# Altium schematic symbol library jlcpcb_resistors_basic.schlib: 256 symbols (part 4 of 5)
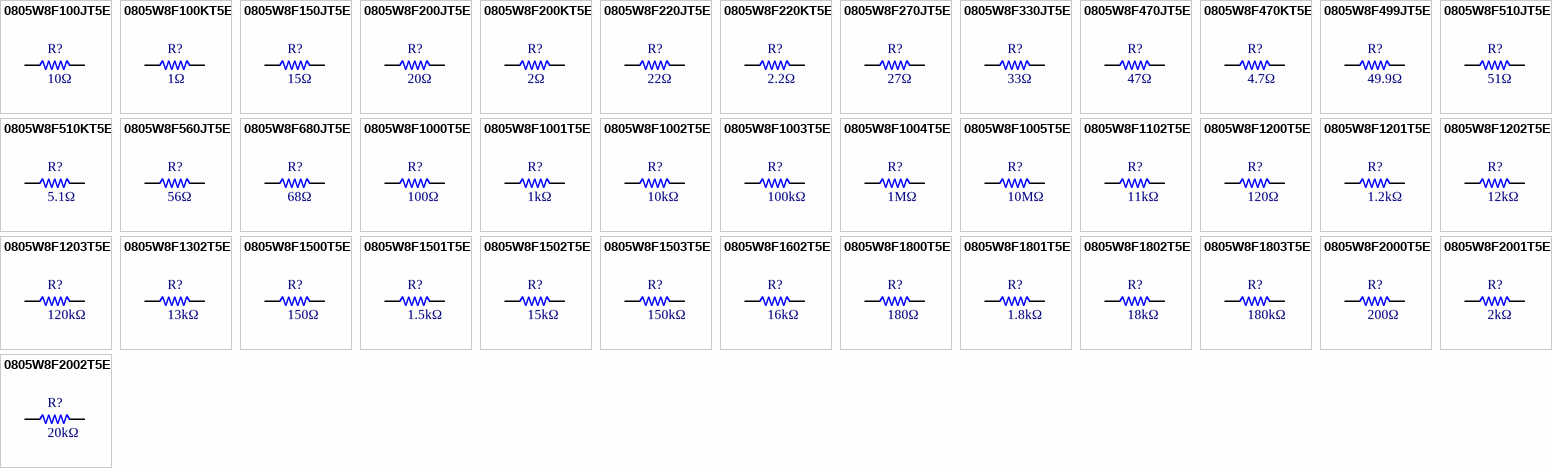
[diagram p9: symbols 0805W8F100JT5E to 0805W8F2002T5E]

## 0805W8F1200T5E
designator R?  Resistance: 120Ω  (hidden comment: *)
Resistor, 120Ω, ±1%, 125mW, 150V, ±100ppm/°C, -55°C to +155°C, SMD 0805; Manufacturer: Uniroyal; Manufacturer Part Number: 0805W8F1200T5E; Supplier 1: LCSC; Supplier Part Number 1: C17437; JLCPCB Part Number: C17437; Power Rating: 125mW; Category: Resistors; Package Size: 0805; JLCPCB Basic Part: Yes; Tolerance: ±1%; Voltage Rating: 150V; Temperature Coefficient: ±100ppm/°C; Temperature Rating: -55°C to +155°C; ComponentLink1Description: Datasheet; ComponentLink1URL: https://datasheet.lcsc.com/lcsc/2206010216_UNI-ROYAL-Uniroyal-Elec-0805W8F1200T5E_C17437.pdf; ComponentLink2Description: JLCPCB Part URL; ComponentLink2URL: https://jlcpcb.com/partdetail/18125-0805W8F1200T5E/C17437
footprint RES-0805 (0805 (2012M) Resistor)
pins: 1, 2

## 0805W8F1201T5E
designator R?  Resistance: 1.2kΩ  (hidden comment: *)
Resistor, 1.2kΩ, ±1%, 125mW, 150V, ±100ppm/°C, -55°C to +155°C, SMD 0805; Manufacturer: Uniroyal; Manufacturer Part Number: 0805W8F1201T5E; Supplier 1: LCSC; Supplier Part Number 1: C17379; JLCPCB Part Number: C17379; Power Rating: 125mW; Category: Resistors; Package Size: 0805; JLCPCB Basic Part: Yes; Tolerance: ±1%; Voltage Rating: 150V; Temperature Coefficient: ±100ppm/°C; Temperature Rating: -55°C to +155°C; ComponentLink1Description: Datasheet; ComponentLink1URL: https://datasheet.lcsc.com/lcsc/2206010216_UNI-ROYAL-Uniroyal-Elec-0805W8F1201T5E_C17379.pdf; ComponentLink2Description: JLCPCB Part URL; ComponentLink2URL: https://jlcpcb.com/partdetail/18067-0805W8F1201T5E/C17379
footprint RES-0805 (0805 (2012M) Resistor)
pins: 1, 2

## 0805W8F1202T5E
designator R?  Resistance: 12kΩ  (hidden comment: *)
Resistor, 12kΩ, ±1%, 125mW, 150V, ±100ppm/°C, -55°C to +155°C, SMD 0805; Manufacturer: Uniroyal; Manufacturer Part Number: 0805W8F1202T5E; Supplier 1: LCSC; Supplier Part Number 1: C17444; JLCPCB Part Number: C17444; Power Rating: 125mW; Category: Resistors; Package Size: 0805; JLCPCB Basic Part: Yes; Tolerance: ±1%; Voltage Rating: 150V; Temperature Coefficient: ±100ppm/°C; Temperature Rating: -55°C to +155°C; ComponentLink1Description: Datasheet; ComponentLink1URL: https://datasheet.lcsc.com/lcsc/2206010216_UNI-ROYAL-Uniroyal-Elec-0805W8F1202T5E_C17444.pdf; ComponentLink2Description: JLCPCB Part URL; ComponentLink2URL: https://jlcpcb.com/partdetail/18132-0805W8F1202T5E/C17444
footprint RES-0805 (0805 (2012M) Resistor)
pins: 1, 2

## 0805W8F1203T5E
designator R?  Resistance: 120kΩ  (hidden comment: *)
Resistor, 120kΩ, ±1%, 125mW, 150V, ±100ppm/°C, -55°C to +155°C, SMD 0805; Manufacturer: Uniroyal; Manufacturer Part Number: 0805W8F1203T5E; Supplier 1: LCSC; Supplier Part Number 1: C17436; JLCPCB Part Number: C17436; Power Rating: 125mW; Category: Resistors; Package Size: 0805; JLCPCB Basic Part: Yes; Tolerance: ±1%; Voltage Rating: 150V; Temperature Coefficient: ±100ppm/°C; Temperature Rating: -55°C to +155°C; ComponentLink1Description: Datasheet; ComponentLink1URL: https://datasheet.lcsc.com/lcsc/2206010216_UNI-ROYAL-Uniroyal-Elec-0805W8F1203T5E_C17436.pdf; ComponentLink2Description: JLCPCB Part URL; ComponentLink2URL: https://jlcpcb.com/partdetail/18124-0805W8F1203T5E/C17436
footprint RES-0805 (0805 (2012M) Resistor)
pins: 1, 2

## 0805W8F1302T5E
designator R?  Resistance: 13kΩ  (hidden comment: *)
Resistor, 13kΩ, ±1%, 125mW, 150V, ±100ppm/°C, -55°C to +155°C, SMD 0805; Manufacturer: Uniroyal; Manufacturer Part Number: 0805W8F1302T5E; Supplier 1: LCSC; Supplier Part Number 1: C17455; JLCPCB Part Number: C17455; Power Rating: 125mW; Category: Resistors; Package Size: 0805; JLCPCB Basic Part: Yes; Tolerance: ±1%; Voltage Rating: 150V; Temperature Coefficient: ±100ppm/°C; Temperature Rating: -55°C to +155°C; ComponentLink1Description: Datasheet; ComponentLink1URL: https://datasheet.lcsc.com/lcsc/2206010216_UNI-ROYAL-Uniroyal-Elec-0805W8F1302T5E_C17455.pdf; ComponentLink2Description: JLCPCB Part URL; ComponentLink2URL: https://jlcpcb.com/partdetail/18143-0805W8F1302T5E/C17455
footprint RES-0805 (0805 (2012M) Resistor)
pins: 1, 2

## 0805W8F1500T5E
designator R?  Resistance: 150Ω  (hidden comment: *)
Resistor, 150Ω, ±1%, 125mW, 150V, ±100ppm/°C, -55°C to +155°C, SMD 0805; Manufacturer: Uniroyal; Manufacturer Part Number: 0805W8F1500T5E; Supplier 1: LCSC; Supplier Part Number 1: C17471; JLCPCB Part Number: C17471; Power Rating: 125mW; Category: Resistors; Package Size: 0805; JLCPCB Basic Part: Yes; Tolerance: ±1%; Voltage Rating: 150V; Temperature Coefficient: ±100ppm/°C; Temperature Rating: -55°C to +155°C; ComponentLink1Description: Datasheet; ComponentLink1URL: https://datasheet.lcsc.com/lcsc/2206010216_UNI-ROYAL-Uniroyal-Elec-0805W8F1500T5E_C17471.pdf; ComponentLink2Description: JLCPCB Part URL; ComponentLink2URL: https://jlcpcb.com/partdetail/18159-0805W8F1500T5E/C17471
footprint RES-0805 (0805 (2012M) Resistor)
pins: 1, 2

## 0805W8F1501T5E
designator R?  Resistance: 1.5kΩ  (hidden comment: *)
Resistor, 1.5kΩ, ±1%, 125mW, 150V, ±100ppm/°C, -55°C to +155°C, SMD 0805; Manufacturer: Uniroyal; Manufacturer Part Number: 0805W8F1501T5E; Supplier 1: LCSC; Supplier Part Number 1: C4310; JLCPCB Part Number: C4310; Power Rating: 125mW; Category: Resistors; Package Size: 0805; JLCPCB Basic Part: Yes; Tolerance: ±1%; Voltage Rating: 150V; Temperature Coefficient: ±100ppm/°C; Temperature Rating: -55°C to +155°C; ComponentLink1Description: Datasheet; ComponentLink1URL: https://datasheet.lcsc.com/lcsc/2206010216_UNI-ROYAL-Uniroyal-Elec-0805W8F1501T5E_C4310.pdf; ComponentLink2Description: JLCPCB Part URL; ComponentLink2URL: https://jlcpcb.com/partdetail/4717-0805W8F1501T5E/C4310
footprint RES-0805 (0805 (2012M) Resistor)
pins: 1, 2

## 0805W8F1502T5E
designator R?  Resistance: 15kΩ  (hidden comment: *)
Resistor, 15kΩ, ±1%, 125mW, 150V, ±100ppm/°C, -55°C to +155°C, SMD 0805; Manufacturer: Uniroyal; Manufacturer Part Number: 0805W8F1502T5E; Supplier 1: LCSC; Supplier Part Number 1: C17475; JLCPCB Part Number: C17475; Power Rating: 125mW; Category: Resistors; Package Size: 0805; JLCPCB Basic Part: Yes; Tolerance: ±1%; Voltage Rating: 150V; Temperature Coefficient: ±100ppm/°C; Temperature Rating: -55°C to +155°C; ComponentLink1Description: Datasheet; ComponentLink1URL: https://datasheet.lcsc.com/lcsc/2206010216_UNI-ROYAL-Uniroyal-Elec-0805W8F1502T5E_C17475.pdf; ComponentLink2Description: JLCPCB Part URL; ComponentLink2URL: https://jlcpcb.com/partdetail/18163-0805W8F1502T5E/C17475
footprint RES-0805 (0805 (2012M) Resistor)
pins: 1, 2

## 0805W8F1503T5E
designator R?  Resistance: 150kΩ  (hidden comment: *)
Resistor, 150kΩ, ±1%, 125mW, 150V, ±100ppm/°C, -55°C to +155°C, SMD 0805; Manufacturer: Uniroyal; Manufacturer Part Number: 0805W8F1503T5E; Supplier 1: LCSC; Supplier Part Number 1: C17470; JLCPCB Part Number: C17470; Power Rating: 125mW; Category: Resistors; Package Size: 0805; JLCPCB Basic Part: Yes; Tolerance: ±1%; Voltage Rating: 150V; Temperature Coefficient: ±100ppm/°C; Temperature Rating: -55°C to +155°C; ComponentLink1Description: Datasheet; ComponentLink1URL: https://datasheet.lcsc.com/lcsc/2206010216_UNI-ROYAL-Uniroyal-Elec-0805W8F1503T5E_C17470.pdf; ComponentLink2Description: JLCPCB Part URL; ComponentLink2URL: https://jlcpcb.com/partdetail/18158-0805W8F1503T5E/C17470
footprint RES-0805 (0805 (2012M) Resistor)
pins: 1, 2

## 0805W8F1602T5E
designator R?  Resistance: 16kΩ  (hidden comment: *)
Resistor, 16kΩ, ±1%, 125mW, 150V, ±100ppm/°C, -55°C to +155°C, SMD 0805; Manufacturer: Uniroyal; Manufacturer Part Number: 0805W8F1602T5E; Supplier 1: LCSC; Supplier Part Number 1: C17490; JLCPCB Part Number: C17490; Power Rating: 125mW; Category: Resistors; Package Size: 0805; JLCPCB Basic Part: Yes; Tolerance: ±1%; Voltage Rating: 150V; Temperature Coefficient: ±100ppm/°C; Temperature Rating: -55°C to +155°C; ComponentLink1Description: Datasheet; ComponentLink1URL: https://datasheet.lcsc.com/lcsc/2206010216_UNI-ROYAL-Uniroyal-Elec-0805W8F1602T5E_C17490.pdf; ComponentLink2Description: JLCPCB Part URL; ComponentLink2URL: https://jlcpcb.com/partdetail/18178-0805W8F1602T5E/C17490
footprint RES-0805 (0805 (2012M) Resistor)
pins: 1, 2

## 0805W8F1800T5E
designator R?  Resistance: 180Ω  (hidden comment: *)
Resistor, 180Ω, ±1%, 125mW, 150V, ±100ppm/°C, -55°C to +155°C, SMD 0805; Manufacturer: Uniroyal; Manufacturer Part Number: 0805W8F1800T5E; Supplier 1: LCSC; Supplier Part Number 1: C25270; JLCPCB Part Number: C25270; Power Rating: 125mW; Category: Resistors; Package Size: 0805; JLCPCB Basic Part: Yes; Tolerance: ±1%; Voltage Rating: 150V; Temperature Coefficient: ±100ppm/°C; Temperature Rating: -55°C to +155°C; ComponentLink1Description: Datasheet; ComponentLink1URL: https://datasheet.lcsc.com/lcsc/2205311845_UNI-ROYAL-Uniroyal-Elec-0805W8F1800T5E_C25270.pdf; ComponentLink2Description: JLCPCB Part URL; ComponentLink2URL: https://jlcpcb.com/partdetail/26013-0805W8F1800T5E/C25270
footprint RES-0805 (0805 (2012M) Resistor)
pins: 1, 2

## 0805W8F1801T5E
designator R?  Resistance: 1.8kΩ  (hidden comment: *)
Resistor, 1.8kΩ, ±1%, 125mW, 150V, ±100ppm/°C, -55°C to +155°C, SMD 0805; Manufacturer: Uniroyal; Manufacturer Part Number: 0805W8F1801T5E; Supplier 1: LCSC; Supplier Part Number 1: C17398; JLCPCB Part Number: C17398; Power Rating: 125mW; Category: Resistors; Package Size: 0805; JLCPCB Basic Part: Yes; Tolerance: ±1%; Voltage Rating: 150V; Temperature Coefficient: ±100ppm/°C; Temperature Rating: -55°C to +155°C; ComponentLink1Description: Datasheet; ComponentLink1URL: https://datasheet.lcsc.com/lcsc/2206010216_UNI-ROYAL-Uniroyal-Elec-0805W8F1801T5E_C17398.pdf; ComponentLink2Description: JLCPCB Part URL; ComponentLink2URL: https://jlcpcb.com/partdetail/18086-0805W8F1801T5E/C17398
footprint RES-0805 (0805 (2012M) Resistor)
pins: 1, 2

## 0805W8F1802T5E
designator R?  Resistance: 18kΩ  (hidden comment: *)
Resistor, 18kΩ, ±1%, 125mW, 150V, ±100ppm/°C, -55°C to +155°C, SMD 0805; Manufacturer: Uniroyal; Manufacturer Part Number: 0805W8F1802T5E; Supplier 1: LCSC; Supplier Part Number 1: C17506; JLCPCB Part Number: C17506; Power Rating: 125mW; Category: Resistors; Package Size: 0805; JLCPCB Basic Part: Yes; Tolerance: ±1%; Voltage Rating: 150V; Temperature Coefficient: ±100ppm/°C; Temperature Rating: -55°C to +155°C; ComponentLink1Description: Datasheet; ComponentLink1URL: https://datasheet.lcsc.com/lcsc/2206010216_UNI-ROYAL-Uniroyal-Elec-0805W8F1802T5E_C17506.pdf; ComponentLink2Description: JLCPCB Part URL; ComponentLink2URL: https://jlcpcb.com/partdetail/18194-0805W8F1802T5E/C17506
footprint RES-0805 (0805 (2012M) Resistor)
pins: 1, 2

## 0805W8F1803T5E
designator R?  Resistance: 180kΩ  (hidden comment: *)
Resistor, 180kΩ, ±1%, 125mW, 150V, ±100ppm/°C, -55°C to +155°C, SMD 0805; Manufacturer: Uniroyal; Manufacturer Part Number: 0805W8F1803T5E; Supplier 1: LCSC; Supplier Part Number 1: C17501; JLCPCB Part Number: C17501; Power Rating: 125mW; Category: Resistors; Package Size: 0805; JLCPCB Basic Part: Yes; Tolerance: ±1%; Voltage Rating: 150V; Temperature Coefficient: ±100ppm/°C; Temperature Rating: -55°C to +155°C; ComponentLink1Description: Datasheet; ComponentLink1URL: https://datasheet.lcsc.com/lcsc/2206010216_UNI-ROYAL-Uniroyal-Elec-0805W8F1803T5E_C17501.pdf; ComponentLink2Description: JLCPCB Part URL; ComponentLink2URL: https://jlcpcb.com/partdetail/18189-0805W8F1803T5E/C17501
footprint RES-0805 (0805 (2012M) Resistor)
pins: 1, 2

## 0805W8F2000T5E
designator R?  Resistance: 200Ω  (hidden comment: *)
Resistor, 200Ω, ±1%, 125mW, 150V, ±100ppm/°C, -55°C to +155°C, SMD 0805; Manufacturer: Uniroyal; Manufacturer Part Number: 0805W8F2000T5E; Supplier 1: LCSC; Supplier Part Number 1: C17540; JLCPCB Part Number: C17540; Power Rating: 125mW; Category: Resistors; Package Size: 0805; JLCPCB Basic Part: Yes; Tolerance: ±1%; Voltage Rating: 150V; Temperature Coefficient: ±100ppm/°C; Temperature Rating: -55°C to +155°C; ComponentLink1Description: Datasheet; ComponentLink1URL: https://datasheet.lcsc.com/lcsc/2206010200_UNI-ROYAL-Uniroyal-Elec-0805W8F2000T5E_C17540.pdf; ComponentLink2Description: JLCPCB Part URL; ComponentLink2URL: https://jlcpcb.com/partdetail/18228-0805W8F2000T5E/C17540
footprint RES-0805 (0805 (2012M) Resistor)
pins: 1, 2

## 0805W8F2001T5E
designator R?  Resistance: 2kΩ  (hidden comment: *)
Resistor, 2kΩ, ±1%, 125mW, 150V, ±100ppm/°C, -55°C to +155°C, SMD 0805; Manufacturer: Uniroyal; Manufacturer Part Number: 0805W8F2001T5E; Supplier 1: LCSC; Supplier Part Number 1: C17604; JLCPCB Part Number: C17604; Power Rating: 125mW; Category: Resistors; Package Size: 0805; JLCPCB Basic Part: Yes; Tolerance: ±1%; Voltage Rating: 150V; Temperature Coefficient: ±100ppm/°C; Temperature Rating: -55°C to +155°C; ComponentLink1Description: Datasheet; ComponentLink1URL: https://datasheet.lcsc.com/lcsc/2206010200_UNI-ROYAL-Uniroyal-Elec-0805W8F2001T5E_C17604.pdf; ComponentLink2Description: JLCPCB Part URL; ComponentLink2URL: https://jlcpcb.com/partdetail/18292-0805W8F2001T5E/C17604
footprint RES-0805 (0805 (2012M) Resistor)
pins: 1, 2

## 0805W8F2002T5E
designator R?  Resistance: 20kΩ  (hidden comment: *)
Resistor, 20kΩ, ±1%, 125mW, 150V, ±100ppm/°C, -55°C to +155°C, SMD 0805; Manufacturer: Uniroyal; Manufacturer Part Number: 0805W8F2002T5E; Supplier 1: LCSC; Supplier Part Number 1: C4328; JLCPCB Part Number: C4328; Power Rating: 125mW; Category: Resistors; Package Size: 0805; JLCPCB Basic Part: Yes; Tolerance: ±1%; Voltage Rating: 150V; Temperature Coefficient: ±100ppm/°C; Temperature Rating: -55°C to +155°C; ComponentLink1Description: Datasheet; ComponentLink1URL: https://datasheet.lcsc.com/lcsc/2206010216_UNI-ROYAL-Uniroyal-Elec-0805W8F2002T5E_C4328.pdf; ComponentLink2Description: JLCPCB Part URL; ComponentLink2URL: https://jlcpcb.com/partdetail/4735-0805W8F2002T5E/C4328
footprint RES-0805 (0805 (2012M) Resistor)
pins: 1, 2

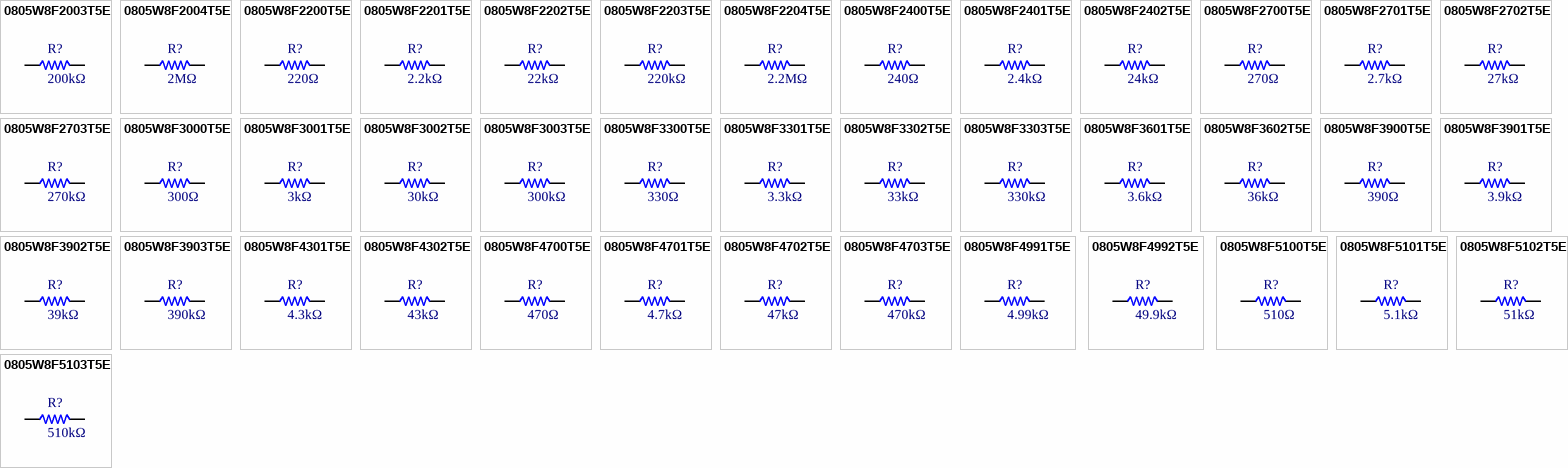
[diagram p5: symbols 0805W8F2003T5E to 0805W8F5103T5E]

## 0805W8F2003T5E
designator R?  Resistance: 200kΩ  (hidden comment: *)
Resistor, 200kΩ, ±1%, 125mW, 150V, ±100ppm/°C, -55°C to +155°C, SMD 0805; Manufacturer: Uniroyal; Manufacturer Part Number: 0805W8F2003T5E; Supplier 1: LCSC; Supplier Part Number 1: C17539; JLCPCB Part Number: C17539; Power Rating: 125mW; Category: Resistors; Package Size: 0805; JLCPCB Basic Part: Yes; Tolerance: ±1%; Voltage Rating: 150V; Temperature Coefficient: ±100ppm/°C; Temperature Rating: -55°C to +155°C; ComponentLink1Description: Datasheet; ComponentLink1URL: https://datasheet.lcsc.com/lcsc/2206010200_UNI-ROYAL-Uniroyal-Elec-0805W8F2003T5E_C17539.pdf; ComponentLink2Description: JLCPCB Part URL; ComponentLink2URL: https://jlcpcb.com/partdetail/18227-0805W8F2003T5E/C17539
footprint RES-0805 (0805 (2012M) Resistor)
pins: 1, 2

## 0805W8F2004T5E
designator R?  Resistance: 2MΩ  (hidden comment: *)
Resistor, 2MΩ, ±1%, 125mW, 150V, ±100ppm/°C, -55°C to +155°C, SMD 0805; Manufacturer: Uniroyal; Manufacturer Part Number: 0805W8F2004T5E; Supplier 1: LCSC; Supplier Part Number 1: C26112; JLCPCB Part Number: C26112; Power Rating: 125mW; Category: Resistors; Package Size: 0805; JLCPCB Basic Part: Yes; Tolerance: ±1%; Voltage Rating: 150V; Temperature Coefficient: ±100ppm/°C; Temperature Rating: -55°C to +155°C; ComponentLink1Description: Datasheet; ComponentLink1URL: https://datasheet.lcsc.com/lcsc/2206010030_UNI-ROYAL-Uniroyal-Elec-0805W8F2004T5E_C26112.pdf; ComponentLink2Description: JLCPCB Part URL; ComponentLink2URL: https://jlcpcb.com/partdetail/26855-0805W8F2004T5E/C26112
footprint RES-0805 (0805 (2012M) Resistor)
pins: 1, 2

## 0805W8F2200T5E
designator R?  Resistance: 220Ω  (hidden comment: *)
Resistor, 220Ω, ±1%, 125mW, 150V, ±100ppm/°C, -55°C to +155°C, SMD 0805; Manufacturer: Uniroyal; Manufacturer Part Number: 0805W8F2200T5E; Supplier 1: LCSC; Supplier Part Number 1: C17557; JLCPCB Part Number: C17557; Power Rating: 125mW; Category: Resistors; Package Size: 0805; JLCPCB Basic Part: Yes; Tolerance: ±1%; Voltage Rating: 150V; Temperature Coefficient: ±100ppm/°C; Temperature Rating: -55°C to +155°C; ComponentLink1Description: Datasheet; ComponentLink1URL: https://datasheet.lcsc.com/lcsc/2206010200_UNI-ROYAL-Uniroyal-Elec-0805W8F2200T5E_C17557.pdf; ComponentLink2Description: JLCPCB Part URL; ComponentLink2URL: https://jlcpcb.com/partdetail/18245-0805W8F2200T5E/C17557
footprint RES-0805 (0805 (2012M) Resistor)
pins: 1, 2

## 0805W8F2201T5E
designator R?  Resistance: 2.2kΩ  (hidden comment: *)
Resistor, 2.2kΩ, ±1%, 125mW, 150V, ±100ppm/°C, -55°C to +155°C, SMD 0805; Manufacturer: Uniroyal; Manufacturer Part Number: 0805W8F2201T5E; Supplier 1: LCSC; Supplier Part Number 1: C17520; JLCPCB Part Number: C17520; Power Rating: 125mW; Category: Resistors; Package Size: 0805; JLCPCB Basic Part: Yes; Tolerance: ±1%; Voltage Rating: 150V; Temperature Coefficient: ±100ppm/°C; Temperature Rating: -55°C to +155°C; ComponentLink1Description: Datasheet; ComponentLink1URL: https://datasheet.lcsc.com/lcsc/2206010200_UNI-ROYAL-Uniroyal-Elec-0805W8F2201T5E_C17520.pdf; ComponentLink2Description: JLCPCB Part URL; ComponentLink2URL: https://jlcpcb.com/partdetail/18208-0805W8F2201T5E/C17520
footprint RES-0805 (0805 (2012M) Resistor)
pins: 1, 2

## 0805W8F2202T5E
designator R?  Resistance: 22kΩ  (hidden comment: *)
Resistor, 22kΩ, ±1%, 125mW, 150V, ±100ppm/°C, -55°C to +155°C, SMD 0805; Manufacturer: Uniroyal; Manufacturer Part Number: 0805W8F2202T5E; Supplier 1: LCSC; Supplier Part Number 1: C17560; JLCPCB Part Number: C17560; Power Rating: 125mW; Category: Resistors; Package Size: 0805; JLCPCB Basic Part: Yes; Tolerance: ±1%; Voltage Rating: 150V; Temperature Coefficient: ±100ppm/°C; Temperature Rating: -55°C to +155°C; ComponentLink1Description: Datasheet; ComponentLink1URL: https://datasheet.lcsc.com/lcsc/2206010200_UNI-ROYAL-Uniroyal-Elec-0805W8F2202T5E_C17560.pdf; ComponentLink2Description: JLCPCB Part URL; ComponentLink2URL: https://jlcpcb.com/partdetail/18248-0805W8F2202T5E/C17560
footprint RES-0805 (0805 (2012M) Resistor)
pins: 1, 2

## 0805W8F2203T5E
designator R?  Resistance: 220kΩ  (hidden comment: *)
Resistor, 220kΩ, ±1%, 125mW, 150V, ±100ppm/°C, -55°C to +155°C, SMD 0805; Manufacturer: Uniroyal; Manufacturer Part Number: 0805W8F2203T5E; Supplier 1: LCSC; Supplier Part Number 1: C17556; JLCPCB Part Number: C17556; Power Rating: 125mW; Category: Resistors; Package Size: 0805; JLCPCB Basic Part: Yes; Tolerance: ±1%; Voltage Rating: 150V; Temperature Coefficient: ±100ppm/°C; Temperature Rating: -55°C to +155°C; ComponentLink1Description: Datasheet; ComponentLink1URL: https://datasheet.lcsc.com/lcsc/2206010200_UNI-ROYAL-Uniroyal-Elec-0805W8F2203T5E_C17556.pdf; ComponentLink2Description: JLCPCB Part URL; ComponentLink2URL: https://jlcpcb.com/partdetail/18244-0805W8F2203T5E/C17556
footprint RES-0805 (0805 (2012M) Resistor)
pins: 1, 2

## 0805W8F2204T5E
designator R?  Resistance: 2.2MΩ  (hidden comment: *)
Resistor, 2.2MΩ, ±1%, 125mW, 150V, ±100ppm/°C, -55°C to +155°C, SMD 0805; Manufacturer: Uniroyal; Manufacturer Part Number: 0805W8F2204T5E; Supplier 1: LCSC; Supplier Part Number 1: C26113; JLCPCB Part Number: C26113; Power Rating: 125mW; Category: Resistors; Package Size: 0805; JLCPCB Basic Part: Yes; Tolerance: ±1%; Voltage Rating: 150V; Temperature Coefficient: ±100ppm/°C; Temperature Rating: -55°C to +155°C; ComponentLink1Description: Datasheet; ComponentLink1URL: https://datasheet.lcsc.com/lcsc/2206010030_UNI-ROYAL-Uniroyal-Elec-0805W8F2204T5E_C26113.pdf; ComponentLink2Description: JLCPCB Part URL; ComponentLink2URL: https://jlcpcb.com/partdetail/26856-0805W8F2204T5E/C26113
footprint RES-0805 (0805 (2012M) Resistor)
pins: 1, 2

## 0805W8F2400T5E
designator R?  Resistance: 240Ω  (hidden comment: *)
Resistor, 240Ω, ±1%, 125mW, 150V, ±100ppm/°C, -55°C to +155°C, SMD 0805; Manufacturer: Uniroyal; Manufacturer Part Number: 0805W8F2400T5E; Supplier 1: LCSC; Supplier Part Number 1: C17572; JLCPCB Part Number: C17572; Power Rating: 125mW; Category: Resistors; Package Size: 0805; JLCPCB Basic Part: Yes; Tolerance: ±1%; Voltage Rating: 150V; Temperature Coefficient: ±100ppm/°C; Temperature Rating: -55°C to +155°C; ComponentLink1Description: Datasheet; ComponentLink1URL: https://datasheet.lcsc.com/lcsc/2206010200_UNI-ROYAL-Uniroyal-Elec-0805W8F2400T5E_C17572.pdf; ComponentLink2Description: JLCPCB Part URL; ComponentLink2URL: https://jlcpcb.com/partdetail/18260-0805W8F2400T5E/C17572
footprint RES-0805 (0805 (2012M) Resistor)
pins: 1, 2

## 0805W8F2401T5E
designator R?  Resistance: 2.4kΩ  (hidden comment: *)
Resistor, 2.4kΩ, ±1%, 125mW, 150V, ±100ppm/°C, -55°C to +155°C, SMD 0805; Manufacturer: Uniroyal; Manufacturer Part Number: 0805W8F2401T5E; Supplier 1: LCSC; Supplier Part Number 1: C17526; JLCPCB Part Number: C17526; Power Rating: 125mW; Category: Resistors; Package Size: 0805; JLCPCB Basic Part: Yes; Tolerance: ±1%; Voltage Rating: 150V; Temperature Coefficient: ±100ppm/°C; Temperature Rating: -55°C to +155°C; ComponentLink1Description: Datasheet; ComponentLink1URL: https://datasheet.lcsc.com/lcsc/2206010200_UNI-ROYAL-Uniroyal-Elec-0805W8F2401T5E_C17526.pdf; ComponentLink2Description: JLCPCB Part URL; ComponentLink2URL: https://jlcpcb.com/partdetail/18214-0805W8F2401T5E/C17526
footprint RES-0805 (0805 (2012M) Resistor)
pins: 1, 2

## 0805W8F2402T5E
designator R?  Resistance: 24kΩ  (hidden comment: *)
Resistor, 24kΩ, ±1%, 125mW, 150V, ±100ppm/°C, -55°C to +155°C, SMD 0805; Manufacturer: Uniroyal; Manufacturer Part Number: 0805W8F2402T5E; Supplier 1: LCSC; Supplier Part Number 1: C17575; JLCPCB Part Number: C17575; Power Rating: 125mW; Category: Resistors; Package Size: 0805; JLCPCB Basic Part: Yes; Tolerance: ±1%; Voltage Rating: 150V; Temperature Coefficient: ±100ppm/°C; Temperature Rating: -55°C to +155°C; ComponentLink1Description: Datasheet; ComponentLink1URL: https://datasheet.lcsc.com/lcsc/2206010200_UNI-ROYAL-Uniroyal-Elec-0805W8F2402T5E_C17575.pdf; ComponentLink2Description: JLCPCB Part URL; ComponentLink2URL: https://jlcpcb.com/partdetail/18263-0805W8F2402T5E/C17575
footprint RES-0805 (0805 (2012M) Resistor)
pins: 1, 2

## 0805W8F2700T5E
designator R?  Resistance: 270Ω  (hidden comment: *)
Resistor, 270Ω, ±1%, 125mW, 150V, ±100ppm/°C, -55°C to +155°C, SMD 0805; Manufacturer: Uniroyal; Manufacturer Part Number: 0805W8F2700T5E; Supplier 1: LCSC; Supplier Part Number 1: C17590; JLCPCB Part Number: C17590; Power Rating: 125mW; Category: Resistors; Package Size: 0805; JLCPCB Basic Part: Yes; Tolerance: ±1%; Voltage Rating: 150V; Temperature Coefficient: ±100ppm/°C; Temperature Rating: -55°C to +155°C; ComponentLink1Description: Datasheet; ComponentLink1URL: https://datasheet.lcsc.com/lcsc/2206010200_UNI-ROYAL-Uniroyal-Elec-0805W8F2700T5E_C17590.pdf; ComponentLink2Description: JLCPCB Part URL; ComponentLink2URL: https://jlcpcb.com/partdetail/18278-0805W8F2700T5E/C17590
footprint RES-0805 (0805 (2012M) Resistor)
pins: 1, 2

## 0805W8F2701T5E
designator R?  Resistance: 2.7kΩ  (hidden comment: *)
Resistor, 2.7kΩ, ±1%, 125mW, 150V, ±100ppm/°C, -55°C to +155°C, SMD 0805; Manufacturer: Uniroyal; Manufacturer Part Number: 0805W8F2701T5E; Supplier 1: LCSC; Supplier Part Number 1: C17530; JLCPCB Part Number: C17530; Power Rating: 125mW; Category: Resistors; Package Size: 0805; JLCPCB Basic Part: Yes; Tolerance: ±1%; Voltage Rating: 150V; Temperature Coefficient: ±100ppm/°C; Temperature Rating: -55°C to +155°C; ComponentLink1Description: Datasheet; ComponentLink1URL: https://datasheet.lcsc.com/lcsc/2206010200_UNI-ROYAL-Uniroyal-Elec-0805W8F2701T5E_C17530.pdf; ComponentLink2Description: JLCPCB Part URL; ComponentLink2URL: https://jlcpcb.com/partdetail/18218-0805W8F2701T5E/C17530
footprint RES-0805 (0805 (2012M) Resistor)
pins: 1, 2

## 0805W8F2702T5E
designator R?  Resistance: 27kΩ  (hidden comment: *)
Resistor, 27kΩ, ±1%, 125mW, 150V, ±100ppm/°C, -55°C to +155°C, SMD 0805; Manufacturer: Uniroyal; Manufacturer Part Number: 0805W8F2702T5E; Supplier 1: LCSC; Supplier Part Number 1: C17593; JLCPCB Part Number: C17593; Power Rating: 125mW; Category: Resistors; Package Size: 0805; JLCPCB Basic Part: Yes; Tolerance: ±1%; Voltage Rating: 150V; Temperature Coefficient: ±100ppm/°C; Temperature Rating: -55°C to +155°C; ComponentLink1Description: Datasheet; ComponentLink1URL: https://datasheet.lcsc.com/lcsc/2206010200_UNI-ROYAL-Uniroyal-Elec-0805W8F2702T5E_C17593.pdf; ComponentLink2Description: JLCPCB Part URL; ComponentLink2URL: https://jlcpcb.com/partdetail/18281-0805W8F2702T5E/C17593
footprint RES-0805 (0805 (2012M) Resistor)
pins: 1, 2

## 0805W8F2703T5E
designator R?  Resistance: 270kΩ  (hidden comment: *)
Resistor, 270kΩ, ±1%, 125mW, 150V, ±100ppm/°C, -55°C to +155°C, SMD 0805; Manufacturer: Uniroyal; Manufacturer Part Number: 0805W8F2703T5E; Supplier 1: LCSC; Supplier Part Number 1: C17589; JLCPCB Part Number: C17589; Power Rating: 125mW; Category: Resistors; Package Size: 0805; JLCPCB Basic Part: Yes; Tolerance: ±1%; Voltage Rating: 150V; Temperature Coefficient: ±100ppm/°C; Temperature Rating: -55°C to +155°C; ComponentLink1Description: Datasheet; ComponentLink1URL: https://datasheet.lcsc.com/lcsc/2206010200_UNI-ROYAL-Uniroyal-Elec-0805W8F2703T5E_C17589.pdf; ComponentLink2Description: JLCPCB Part URL; ComponentLink2URL: https://jlcpcb.com/partdetail/18277-0805W8F2703T5E/C17589
footprint RES-0805 (0805 (2012M) Resistor)
pins: 1, 2

## 0805W8F3000T5E
designator R?  Resistance: 300Ω  (hidden comment: *)
Resistor, 300Ω, ±1%, 125mW, 150V, ±100ppm/°C, -55°C to +155°C, SMD 0805; Manufacturer: Uniroyal; Manufacturer Part Number: 0805W8F3000T5E; Supplier 1: LCSC; Supplier Part Number 1: C17617; JLCPCB Part Number: C17617; Power Rating: 125mW; Category: Resistors; Package Size: 0805; JLCPCB Basic Part: Yes; Tolerance: ±1%; Voltage Rating: 150V; Temperature Coefficient: ±100ppm/°C; Temperature Rating: -55°C to +155°C; ComponentLink1Description: Datasheet; ComponentLink1URL: https://datasheet.lcsc.com/lcsc/2206010200_UNI-ROYAL-Uniroyal-Elec-0805W8F3000T5E_C17617.pdf; ComponentLink2Description: JLCPCB Part URL; ComponentLink2URL: https://jlcpcb.com/partdetail/18305-0805W8F3000T5E/C17617
footprint RES-0805 (0805 (2012M) Resistor)
pins: 1, 2

## 0805W8F3001T5E
designator R?  Resistance: 3kΩ  (hidden comment: *)
Resistor, 3kΩ, ±1%, 125mW, 150V, ±100ppm/°C, -55°C to +155°C, SMD 0805; Manufacturer: Uniroyal; Manufacturer Part Number: 0805W8F3001T5E; Supplier 1: LCSC; Supplier Part Number 1: C17661; JLCPCB Part Number: C17661; Power Rating: 125mW; Category: Resistors; Package Size: 0805; JLCPCB Basic Part: Yes; Tolerance: ±1%; Voltage Rating: 150V; Temperature Coefficient: ±100ppm/°C; Temperature Rating: -55°C to +155°C; ComponentLink1Description: Datasheet; ComponentLink1URL: https://datasheet.lcsc.com/lcsc/2206010200_UNI-ROYAL-Uniroyal-Elec-0805W8F3001T5E_C17661.pdf; ComponentLink2Description: JLCPCB Part URL; ComponentLink2URL: https://jlcpcb.com/partdetail/18349-0805W8F3001T5E/C17661
footprint RES-0805 (0805 (2012M) Resistor)
pins: 1, 2

## 0805W8F3002T5E
designator R?  Resistance: 30kΩ  (hidden comment: *)
Resistor, 30kΩ, ±1%, 125mW, 150V, ±100ppm/°C, -55°C to +155°C, SMD 0805; Manufacturer: Uniroyal; Manufacturer Part Number: 0805W8F3002T5E; Supplier 1: LCSC; Supplier Part Number 1: C17621; JLCPCB Part Number: C17621; Power Rating: 125mW; Category: Resistors; Package Size: 0805; JLCPCB Basic Part: Yes; Tolerance: ±1%; Voltage Rating: 150V; Temperature Coefficient: ±100ppm/°C; Temperature Rating: -55°C to +155°C; ComponentLink1Description: Datasheet; ComponentLink1URL: https://datasheet.lcsc.com/lcsc/2205311830_UNI-ROYAL-Uniroyal-Elec-0805W8F3002T5E_C17621.pdf; ComponentLink2Description: JLCPCB Part URL; ComponentLink2URL: https://jlcpcb.com/partdetail/18309-0805W8F3002T5E/C17621
footprint RES-0805 (0805 (2012M) Resistor)
pins: 1, 2

## 0805W8F3003T5E
designator R?  Resistance: 300kΩ  (hidden comment: *)
Resistor, 300kΩ, ±1%, 125mW, 150V, ±100ppm/°C, -55°C to +155°C, SMD 0805; Manufacturer: Uniroyal; Manufacturer Part Number: 0805W8F3003T5E; Supplier 1: LCSC; Supplier Part Number 1: C17616; JLCPCB Part Number: C17616; Power Rating: 125mW; Category: Resistors; Package Size: 0805; JLCPCB Basic Part: Yes; Tolerance: ±1%; Voltage Rating: 150V; Temperature Coefficient: ±100ppm/°C; Temperature Rating: -55°C to +155°C; ComponentLink1Description: Datasheet; ComponentLink1URL: https://datasheet.lcsc.com/lcsc/2206010200_UNI-ROYAL-Uniroyal-Elec-0805W8F3003T5E_C17616.pdf; ComponentLink2Description: JLCPCB Part URL; ComponentLink2URL: https://jlcpcb.com/partdetail/18304-0805W8F3003T5E/C17616
footprint RES-0805 (0805 (2012M) Resistor)
pins: 1, 2

## 0805W8F3300T5E
designator R?  Resistance: 330Ω  (hidden comment: *)
Resistor, 330Ω, ±1%, 125mW, 150V, ±100ppm/°C, -55°C to +155°C, SMD 0805; Manufacturer: Uniroyal; Manufacturer Part Number: 0805W8F3300T5E; Supplier 1: LCSC; Supplier Part Number 1: C17630; JLCPCB Part Number: C17630; Power Rating: 125mW; Category: Resistors; Package Size: 0805; JLCPCB Basic Part: Yes; Tolerance: ±1%; Voltage Rating: 150V; Temperature Coefficient: ±100ppm/°C; Temperature Rating: -55°C to +155°C; ComponentLink1Description: Datasheet; ComponentLink1URL: https://datasheet.lcsc.com/lcsc/2205311830_UNI-ROYAL-Uniroyal-Elec-0805W8F3300T5E_C17630.pdf; ComponentLink2Description: JLCPCB Part URL; ComponentLink2URL: https://jlcpcb.com/partdetail/18318-0805W8F3300T5E/C17630
footprint RES-0805 (0805 (2012M) Resistor)
pins: 1, 2

## 0805W8F3301T5E
designator R?  Resistance: 3.3kΩ  (hidden comment: *)
Resistor, 3.3kΩ, ±1%, 125mW, 150V, ±100ppm/°C, -55°C to +155°C, SMD 0805; Manufacturer: Uniroyal; Manufacturer Part Number: 0805W8F3301T5E; Supplier 1: LCSC; Supplier Part Number 1: C26010; JLCPCB Part Number: C26010; Power Rating: 125mW; Category: Resistors; Package Size: 0805; JLCPCB Basic Part: Yes; Tolerance: ±1%; Voltage Rating: 150V; Temperature Coefficient: ±100ppm/°C; Temperature Rating: -55°C to +155°C; ComponentLink1Description: Datasheet; ComponentLink1URL: https://datasheet.lcsc.com/lcsc/2206010045_UNI-ROYAL-Uniroyal-Elec-0805W8F3301T5E_C26010.pdf; ComponentLink2Description: JLCPCB Part URL; ComponentLink2URL: https://jlcpcb.com/partdetail/26753-0805W8F3301T5E/C26010
footprint RES-0805 (0805 (2012M) Resistor)
pins: 1, 2

## 0805W8F3302T5E
designator R?  Resistance: 33kΩ  (hidden comment: *)
Resistor, 33kΩ, ±1%, 125mW, 150V, ±100ppm/°C, -55°C to +155°C, SMD 0805; Manufacturer: Uniroyal; Manufacturer Part Number: 0805W8F3302T5E; Supplier 1: LCSC; Supplier Part Number 1: C17633; JLCPCB Part Number: C17633; Power Rating: 125mW; Category: Resistors; Package Size: 0805; JLCPCB Basic Part: Yes; Tolerance: ±1%; Voltage Rating: 150V; Temperature Coefficient: ±100ppm/°C; Temperature Rating: -55°C to +155°C; ComponentLink1Description: Datasheet; ComponentLink1URL: https://datasheet.lcsc.com/lcsc/2205311830_UNI-ROYAL-Uniroyal-Elec-0805W8F3302T5E_C17633.pdf; ComponentLink2Description: JLCPCB Part URL; ComponentLink2URL: https://jlcpcb.com/partdetail/18321-0805W8F3302T5E/C17633
footprint RES-0805 (0805 (2012M) Resistor)
pins: 1, 2

## 0805W8F3303T5E
designator R?  Resistance: 330kΩ  (hidden comment: *)
Resistor, 330kΩ, ±1%, 125mW, 150V, ±100ppm/°C, -55°C to +155°C, SMD 0805; Manufacturer: Uniroyal; Manufacturer Part Number: 0805W8F3303T5E; Supplier 1: LCSC; Supplier Part Number 1: C17629; JLCPCB Part Number: C17629; Power Rating: 125mW; Category: Resistors; Package Size: 0805; JLCPCB Basic Part: Yes; Tolerance: ±1%; Voltage Rating: 150V; Temperature Coefficient: ±100ppm/°C; Temperature Rating: -55°C to +155°C; ComponentLink1Description: Datasheet; ComponentLink1URL: https://datasheet.lcsc.com/lcsc/2205311830_UNI-ROYAL-Uniroyal-Elec-0805W8F3303T5E_C17629.pdf; ComponentLink2Description: JLCPCB Part URL; ComponentLink2URL: https://jlcpcb.com/partdetail/18317-0805W8F3303T5E/C17629
footprint RES-0805 (0805 (2012M) Resistor)
pins: 1, 2

## 0805W8F3601T5E
designator R?  Resistance: 3.6kΩ  (hidden comment: *)
Resistor, 3.6kΩ, ±1%, 125mW, 150V, ±100ppm/°C, -55°C to +155°C, SMD 0805; Manufacturer: Uniroyal; Manufacturer Part Number: 0805W8F3601T5E; Supplier 1: LCSC; Supplier Part Number 1: C18359; JLCPCB Part Number: C18359; Power Rating: 125mW; Category: Resistors; Package Size: 0805; JLCPCB Basic Part: Yes; Tolerance: ±1%; Voltage Rating: 150V; Temperature Coefficient: ±100ppm/°C; Temperature Rating: -55°C to +155°C; ComponentLink1Description: Datasheet; ComponentLink1URL: https://datasheet.lcsc.com/lcsc/2206010145_UNI-ROYAL-Uniroyal-Elec-0805W8F3601T5E_C18359.pdf; ComponentLink2Description: JLCPCB Part URL; ComponentLink2URL: https://jlcpcb.com/partdetail/19056-0805W8F3601T5E/C18359
footprint RES-0805 (0805 (2012M) Resistor)
pins: 1, 2

## 0805W8F3602T5E
designator R?  Resistance: 36kΩ  (hidden comment: *)
Resistor, 36kΩ, ±1%, 125mW, 150V, ±100ppm/°C, -55°C to +155°C, SMD 0805; Manufacturer: Uniroyal; Manufacturer Part Number: 0805W8F3602T5E; Supplier 1: LCSC; Supplier Part Number 1: C4360; JLCPCB Part Number: C4360; Power Rating: 125mW; Category: Resistors; Package Size: 0805; JLCPCB Basic Part: Yes; Tolerance: ±1%; Voltage Rating: 150V; Temperature Coefficient: ±100ppm/°C; Temperature Rating: -55°C to +155°C; ComponentLink1Description: Datasheet; ComponentLink1URL: https://datasheet.lcsc.com/lcsc/2206010216_UNI-ROYAL-Uniroyal-Elec-0805W8F3602T5E_C4360.pdf; ComponentLink2Description: JLCPCB Part URL; ComponentLink2URL: https://jlcpcb.com/partdetail/4767-0805W8F3602T5E/C4360
footprint RES-0805 (0805 (2012M) Resistor)
pins: 1, 2

## 0805W8F3900T5E
designator R?  Resistance: 390Ω  (hidden comment: *)
Resistor, 390Ω, ±1%, 125mW, 150V, ±100ppm/°C, -55°C to +155°C, SMD 0805; Manufacturer: Uniroyal; Manufacturer Part Number: 0805W8F3900T5E; Supplier 1: LCSC; Supplier Part Number 1: C17655; JLCPCB Part Number: C17655; Power Rating: 125mW; Category: Resistors; Package Size: 0805; JLCPCB Basic Part: Yes; Tolerance: ±1%; Voltage Rating: 150V; Temperature Coefficient: ±100ppm/°C; Temperature Rating: -55°C to +155°C; ComponentLink1Description: Datasheet; ComponentLink1URL: https://datasheet.lcsc.com/lcsc/2206010200_UNI-ROYAL-Uniroyal-Elec-0805W8F3900T5E_C17655.pdf; ComponentLink2Description: JLCPCB Part URL; ComponentLink2URL: https://jlcpcb.com/partdetail/18343-0805W8F3900T5E/C17655
footprint RES-0805 (0805 (2012M) Resistor)
pins: 1, 2

## 0805W8F3901T5E
designator R?  Resistance: 3.9kΩ  (hidden comment: *)
Resistor, 3.9kΩ, ±1%, 125mW, 150V, ±100ppm/°C, -55°C to +155°C, SMD 0805; Manufacturer: Uniroyal; Manufacturer Part Number: 0805W8F3901T5E; Supplier 1: LCSC; Supplier Part Number 1: C17614; JLCPCB Part Number: C17614; Power Rating: 125mW; Category: Resistors; Package Size: 0805; JLCPCB Basic Part: Yes; Tolerance: ±1%; Voltage Rating: 150V; Temperature Coefficient: ±100ppm/°C; Temperature Rating: -55°C to +155°C; ComponentLink1Description: Datasheet; ComponentLink1URL: https://datasheet.lcsc.com/lcsc/2206010200_UNI-ROYAL-Uniroyal-Elec-0805W8F3901T5E_C17614.pdf; ComponentLink2Description: JLCPCB Part URL; ComponentLink2URL: https://jlcpcb.com/partdetail/18302-0805W8F3901T5E/C17614
footprint RES-0805 (0805 (2012M) Resistor)
pins: 1, 2

## 0805W8F3902T5E
designator R?  Resistance: 39kΩ  (hidden comment: *)
Resistor, 39kΩ, ±1%, 125mW, 150V, ±100ppm/°C, -55°C to +155°C, SMD 0805; Manufacturer: Uniroyal; Manufacturer Part Number: 0805W8F3902T5E; Supplier 1: LCSC; Supplier Part Number 1: C25826; JLCPCB Part Number: C25826; Power Rating: 125mW; Category: Resistors; Package Size: 0805; JLCPCB Basic Part: Yes; Tolerance: ±1%; Voltage Rating: 150V; Temperature Coefficient: ±100ppm/°C; Temperature Rating: -55°C to +155°C; ComponentLink1Description: Datasheet; ComponentLink1URL: https://datasheet.lcsc.com/lcsc/2206010045_UNI-ROYAL-Uniroyal-Elec-0805W8F3902T5E_C25826.pdf; ComponentLink2Description: JLCPCB Part URL; ComponentLink2URL: https://jlcpcb.com/partdetail/26569-0805W8F3902T5E/C25826
footprint RES-0805 (0805 (2012M) Resistor)
pins: 1, 2

## 0805W8F3903T5E
designator R?  Resistance: 390kΩ  (hidden comment: *)
Resistor, 390kΩ, ±1%, 125mW, 150V, ±100ppm/°C, -55°C to +155°C, SMD 0805; Manufacturer: Uniroyal; Manufacturer Part Number: 0805W8F3903T5E; Supplier 1: LCSC; Supplier Part Number 1: C17656; JLCPCB Part Number: C17656; Power Rating: 125mW; Category: Resistors; Package Size: 0805; JLCPCB Basic Part: Yes; Tolerance: ±1%; Voltage Rating: 150V; Temperature Coefficient: ±100ppm/°C; Temperature Rating: -55°C to +155°C; ComponentLink1Description: Datasheet; ComponentLink1URL: https://datasheet.lcsc.com/lcsc/2206010200_UNI-ROYAL-Uniroyal-Elec-0805W8F3903T5E_C17656.pdf; ComponentLink2Description: JLCPCB Part URL; ComponentLink2URL: https://jlcpcb.com/partdetail/18344-0805W8F3903T5E/C17656
footprint RES-0805 (0805 (2012M) Resistor)
pins: 1, 2

## 0805W8F4301T5E
designator R?  Resistance: 4.3kΩ  (hidden comment: *)
Resistor, 4.3kΩ, ±1%, 125mW, 150V, ±100ppm/°C, -55°C to +155°C, SMD 0805; Manufacturer: Uniroyal; Manufacturer Part Number: 0805W8F4301T5E; Supplier 1: LCSC; Supplier Part Number 1: C17667; JLCPCB Part Number: C17667; Power Rating: 125mW; Category: Resistors; Package Size: 0805; JLCPCB Basic Part: Yes; Tolerance: ±1%; Voltage Rating: 150V; Temperature Coefficient: ±100ppm/°C; Temperature Rating: -55°C to +155°C; ComponentLink1Description: Datasheet; ComponentLink1URL: https://datasheet.lcsc.com/lcsc/2206010200_UNI-ROYAL-Uniroyal-Elec-0805W8F4301T5E_C17667.pdf; ComponentLink2Description: JLCPCB Part URL; ComponentLink2URL: https://jlcpcb.com/partdetail/18355-0805W8F4301T5E/C17667
footprint RES-0805 (0805 (2012M) Resistor)
pins: 1, 2

## 0805W8F4302T5E
designator R?  Resistance: 43kΩ  (hidden comment: *)
Resistor, 43kΩ, ±1%, 125mW, 150V, ±100ppm/°C, -55°C to +155°C, SMD 0805; Manufacturer: Uniroyal; Manufacturer Part Number: 0805W8F4302T5E; Supplier 1: LCSC; Supplier Part Number 1: C17695; JLCPCB Part Number: C17695; Power Rating: 125mW; Category: Resistors; Package Size: 0805; JLCPCB Basic Part: Yes; Tolerance: ±1%; Voltage Rating: 150V; Temperature Coefficient: ±100ppm/°C; Temperature Rating: -55°C to +155°C; ComponentLink1Description: Datasheet; ComponentLink1URL: https://datasheet.lcsc.com/lcsc/2206010200_UNI-ROYAL-Uniroyal-Elec-0805W8F4302T5E_C17695.pdf; ComponentLink2Description: JLCPCB Part URL; ComponentLink2URL: https://jlcpcb.com/partdetail/18383-0805W8F4302T5E/C17695
footprint RES-0805 (0805 (2012M) Resistor)
pins: 1, 2

## 0805W8F4700T5E
designator R?  Resistance: 470Ω  (hidden comment: *)
Resistor, 470Ω, ±1%, 125mW, 150V, ±100ppm/°C, -55°C to +155°C, SMD 0805; Manufacturer: Uniroyal; Manufacturer Part Number: 0805W8F4700T5E; Supplier 1: LCSC; Supplier Part Number 1: C17710; JLCPCB Part Number: C17710; Power Rating: 125mW; Category: Resistors; Package Size: 0805; JLCPCB Basic Part: Yes; Tolerance: ±1%; Voltage Rating: 150V; Temperature Coefficient: ±100ppm/°C; Temperature Rating: -55°C to +155°C; ComponentLink1Description: Datasheet; ComponentLink1URL: https://datasheet.lcsc.com/lcsc/2206010200_UNI-ROYAL-Uniroyal-Elec-0805W8F4700T5E_C17710.pdf; ComponentLink2Description: JLCPCB Part URL; ComponentLink2URL: https://jlcpcb.com/partdetail/18398-0805W8F4700T5E/C17710
footprint RES-0805 (0805 (2012M) Resistor)
pins: 1, 2

## 0805W8F4701T5E
designator R?  Resistance: 4.7kΩ  (hidden comment: *)
Resistor, 4.7kΩ, ±1%, 125mW, 150V, ±100ppm/°C, -55°C to +155°C, SMD 0805; Manufacturer: Uniroyal; Manufacturer Part Number: 0805W8F4701T5E; Supplier 1: LCSC; Supplier Part Number 1: C17673; JLCPCB Part Number: C17673; Power Rating: 125mW; Category: Resistors; Package Size: 0805; JLCPCB Basic Part: Yes; Tolerance: ±1%; Voltage Rating: 150V; Temperature Coefficient: ±100ppm/°C; Temperature Rating: -55°C to +155°C; ComponentLink1Description: Datasheet; ComponentLink1URL: https://datasheet.lcsc.com/lcsc/2206010200_UNI-ROYAL-Uniroyal-Elec-0805W8F4701T5E_C17673.pdf; ComponentLink2Description: JLCPCB Part URL; ComponentLink2URL: https://jlcpcb.com/partdetail/18361-0805W8F4701T5E/C17673
footprint RES-0805 (0805 (2012M) Resistor)
pins: 1, 2

## 0805W8F4702T5E
designator R?  Resistance: 47kΩ  (hidden comment: *)
Resistor, 47kΩ, ±1%, 125mW, 150V, ±100ppm/°C, -55°C to +155°C, SMD 0805; Manufacturer: Uniroyal; Manufacturer Part Number: 0805W8F4702T5E; Supplier 1: LCSC; Supplier Part Number 1: C17713; JLCPCB Part Number: C17713; Power Rating: 125mW; Category: Resistors; Package Size: 0805; JLCPCB Basic Part: Yes; Tolerance: ±1%; Voltage Rating: 150V; Temperature Coefficient: ±100ppm/°C; Temperature Rating: -55°C to +155°C; ComponentLink1Description: Datasheet; ComponentLink1URL: https://datasheet.lcsc.com/lcsc/2206010200_UNI-ROYAL-Uniroyal-Elec-0805W8F4702T5E_C17713.pdf; ComponentLink2Description: JLCPCB Part URL; ComponentLink2URL: https://jlcpcb.com/partdetail/18401-0805W8F4702T5E/C17713
footprint RES-0805 (0805 (2012M) Resistor)
pins: 1, 2

## 0805W8F4703T5E
designator R?  Resistance: 470kΩ  (hidden comment: *)
Resistor, 470kΩ, ±1%, 125mW, 150V, ±100ppm/°C, -55°C to +155°C, SMD 0805; Manufacturer: Uniroyal; Manufacturer Part Number: 0805W8F4703T5E; Supplier 1: LCSC; Supplier Part Number 1: C17709; JLCPCB Part Number: C17709; Power Rating: 125mW; Category: Resistors; Package Size: 0805; JLCPCB Basic Part: Yes; Tolerance: ±1%; Voltage Rating: 150V; Temperature Coefficient: ±100ppm/°C; Temperature Rating: -55°C to +155°C; ComponentLink1Description: Datasheet; ComponentLink1URL: https://datasheet.lcsc.com/lcsc/2206010200_UNI-ROYAL-Uniroyal-Elec-0805W8F4703T5E_C17709.pdf; ComponentLink2Description: JLCPCB Part URL; ComponentLink2URL: https://jlcpcb.com/partdetail/18397-0805W8F4703T5E/C17709
footprint RES-0805 (0805 (2012M) Resistor)
pins: 1, 2

## 0805W8F4991T5E
designator R?  Resistance: 4.99kΩ  (hidden comment: *)
Resistor, 4.99kΩ, ±1%, 125mW, 150V, ±100ppm/°C, -55°C to +155°C, SMD 0805; Manufacturer: Uniroyal; Manufacturer Part Number: 0805W8F4991T5E; Supplier 1: LCSC; Supplier Part Number 1: C17677; JLCPCB Part Number: C17677; Power Rating: 125mW; Category: Resistors; Package Size: 0805; JLCPCB Basic Part: Yes; Tolerance: ±1%; Voltage Rating: 150V; Temperature Coefficient: ±100ppm/°C; Temperature Rating: -55°C to +155°C; ComponentLink1Description: Datasheet; ComponentLink1URL: https://datasheet.lcsc.com/lcsc/2206010200_UNI-ROYAL-Uniroyal-Elec-0805W8F4991T5E_C17677.pdf; ComponentLink2Description: JLCPCB Part URL; ComponentLink2URL: https://jlcpcb.com/partdetail/18365-0805W8F4991T5E/C17677
footprint RES-0805 (0805 (2012M) Resistor)
pins: 1, 2

## 0805W8F4992T5E
designator R?  Resistance: 49.9kΩ  (hidden comment: *)
Resistor, 49.9kΩ, ±1%, 125mW, 150V, ±100ppm/°C, -55°C to +155°C, SMD 0805; Manufacturer: Uniroyal; Manufacturer Part Number: 0805W8F4992T5E; Supplier 1: LCSC; Supplier Part Number 1: C17719; JLCPCB Part Number: C17719; Power Rating: 125mW; Category: Resistors; Package Size: 0805; JLCPCB Basic Part: Yes; Tolerance: ±1%; Voltage Rating: 150V; Temperature Coefficient: ±100ppm/°C; Temperature Rating: -55°C to +155°C; ComponentLink1Description: Datasheet; ComponentLink1URL: https://datasheet.lcsc.com/lcsc/2206010200_UNI-ROYAL-Uniroyal-Elec-0805W8F4992T5E_C17719.pdf; ComponentLink2Description: JLCPCB Part URL; ComponentLink2URL: https://jlcpcb.com/partdetail/18407-0805W8F4992T5E/C17719
footprint RES-0805 (0805 (2012M) Resistor)
pins: 1, 2

## 0805W8F5100T5E
designator R?  Resistance: 510Ω  (hidden comment: *)
Resistor, 510Ω, ±1%, 125mW, 150V, ±100ppm/°C, -55°C to +155°C, SMD 0805; Manufacturer: Uniroyal; Manufacturer Part Number: 0805W8F5100T5E; Supplier 1: LCSC; Supplier Part Number 1: C17734; JLCPCB Part Number: C17734; Power Rating: 125mW; Category: Resistors; Package Size: 0805; JLCPCB Basic Part: Yes; Tolerance: ±1%; Voltage Rating: 150V; Temperature Coefficient: ±100ppm/°C; Temperature Rating: -55°C to +155°C; ComponentLink1Description: Datasheet; ComponentLink1URL: https://datasheet.lcsc.com/lcsc/2206010200_UNI-ROYAL-Uniroyal-Elec-0805W8F5100T5E_C17734.pdf; ComponentLink2Description: JLCPCB Part URL; ComponentLink2URL: https://jlcpcb.com/partdetail/18422-0805W8F5100T5E/C17734
footprint RES-0805 (0805 (2012M) Resistor)
pins: 1, 2

## 0805W8F5101T5E
designator R?  Resistance: 5.1kΩ  (hidden comment: *)
Resistor, 5.1kΩ, ±1%, 125mW, 150V, ±100ppm/°C, -55°C to +155°C, SMD 0805; Manufacturer: Uniroyal; Manufacturer Part Number: 0805W8F5101T5E; Supplier 1: LCSC; Supplier Part Number 1: C27834; JLCPCB Part Number: C27834; Power Rating: 125mW; Category: Resistors; Package Size: 0805; JLCPCB Basic Part: Yes; Tolerance: ±1%; Voltage Rating: 150V; Temperature Coefficient: ±100ppm/°C; Temperature Rating: -55°C to +155°C; ComponentLink1Description: Datasheet; ComponentLink1URL: https://datasheet.lcsc.com/lcsc/2206010030_UNI-ROYAL-Uniroyal-Elec-0805W8F5101T5E_C27834.pdf; ComponentLink2Description: JLCPCB Part URL; ComponentLink2URL: https://jlcpcb.com/partdetail/28584-0805W8F5101T5E/C27834
footprint RES-0805 (0805 (2012M) Resistor)
pins: 1, 2

## 0805W8F5102T5E
designator R?  Resistance: 51kΩ  (hidden comment: *)
Resistor, 51kΩ, ±1%, 125mW, 150V, ±100ppm/°C, -55°C to +155°C, SMD 0805; Manufacturer: Uniroyal; Manufacturer Part Number: 0805W8F5102T5E; Supplier 1: LCSC; Supplier Part Number 1: C17737; JLCPCB Part Number: C17737; Power Rating: 125mW; Category: Resistors; Package Size: 0805; JLCPCB Basic Part: Yes; Tolerance: ±1%; Voltage Rating: 150V; Temperature Coefficient: ±100ppm/°C; Temperature Rating: -55°C to +155°C; ComponentLink1Description: Datasheet; ComponentLink1URL: https://datasheet.lcsc.com/lcsc/2206010200_UNI-ROYAL-Uniroyal-Elec-0805W8F5102T5E_C17737.pdf; ComponentLink2Description: JLCPCB Part URL; ComponentLink2URL: https://jlcpcb.com/partdetail/18425-0805W8F5102T5E/C17737
footprint RES-0805 (0805 (2012M) Resistor)
pins: 1, 2

## 0805W8F5103T5E
designator R?  Resistance: 510kΩ  (hidden comment: *)
Resistor, 510kΩ, ±1%, 125mW, 150V, ±100ppm/°C, -55°C to +155°C, SMD 0805; Manufacturer: Uniroyal; Manufacturer Part Number: 0805W8F5103T5E; Supplier 1: LCSC; Supplier Part Number 1: C17733; JLCPCB Part Number: C17733; Power Rating: 125mW; Category: Resistors; Package Size: 0805; JLCPCB Basic Part: Yes; Tolerance: ±1%; Voltage Rating: 150V; Temperature Coefficient: ±100ppm/°C; Temperature Rating: -55°C to +155°C; ComponentLink1Description: Datasheet; ComponentLink1URL: https://datasheet.lcsc.com/lcsc/2206010200_UNI-ROYAL-Uniroyal-Elec-0805W8F5103T5E_C17733.pdf; ComponentLink2Description: JLCPCB Part URL; ComponentLink2URL: https://jlcpcb.com/partdetail/18421-0805W8F5103T5E/C17733
footprint RES-0805 (0805 (2012M) Resistor)
pins: 1, 2

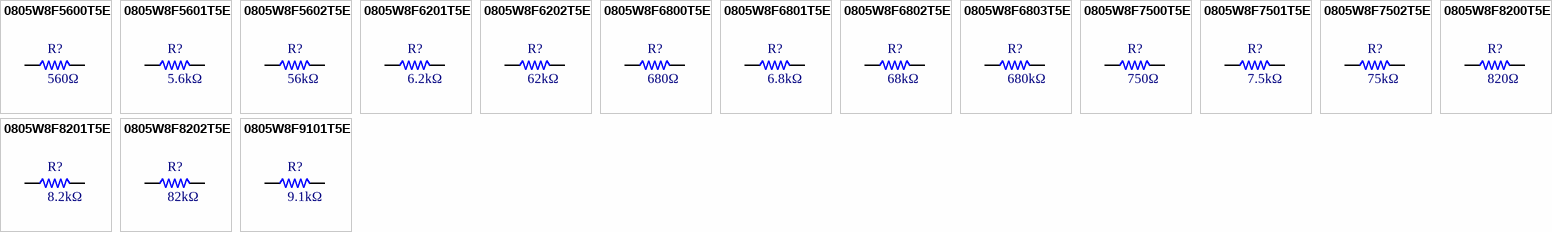
[diagram p6: symbols 0805W8F5600T5E to 0805W8F9101T5E]

## 0805W8F5600T5E
designator R?  Resistance: 560Ω  (hidden comment: *)
Resistor, 560Ω, ±1%, 125mW, 150V, ±100ppm/°C, -55°C to +155°C, SMD 0805; Manufacturer: Uniroyal; Manufacturer Part Number: 0805W8F5600T5E; Supplier 1: LCSC; Supplier Part Number 1: C28636; JLCPCB Part Number: C28636; Power Rating: 125mW; Category: Resistors; Package Size: 0805; JLCPCB Basic Part: Yes; Tolerance: ±1%; Voltage Rating: 150V; Temperature Coefficient: ±100ppm/°C; Temperature Rating: -55°C to +155°C; ComponentLink1Description: Datasheet; ComponentLink1URL: https://datasheet.lcsc.com/lcsc/2206010030_UNI-ROYAL-Uniroyal-Elec-0805W8F5600T5E_C28636.pdf; ComponentLink2Description: JLCPCB Part URL; ComponentLink2URL: https://jlcpcb.com/partdetail/29388-0805W8F5600T5E/C28636
footprint RES-0805 (0805 (2012M) Resistor)
pins: 1, 2

## 0805W8F5601T5E
designator R?  Resistance: 5.6kΩ  (hidden comment: *)
Resistor, 5.6kΩ, ±1%, 125mW, 150V, ±100ppm/°C, -55°C to +155°C, SMD 0805; Manufacturer: Uniroyal; Manufacturer Part Number: 0805W8F5601T5E; Supplier 1: LCSC; Supplier Part Number 1: C4382; JLCPCB Part Number: C4382; Power Rating: 125mW; Category: Resistors; Package Size: 0805; JLCPCB Basic Part: Yes; Tolerance: ±1%; Voltage Rating: 150V; Temperature Coefficient: ±100ppm/°C; Temperature Rating: -55°C to +155°C; ComponentLink1Description: Datasheet; ComponentLink1URL: https://datasheet.lcsc.com/lcsc/2206010216_UNI-ROYAL-Uniroyal-Elec-0805W8F5601T5E_C4382.pdf; ComponentLink2Description: JLCPCB Part URL; ComponentLink2URL: https://jlcpcb.com/partdetail/4789-0805W8F5601T5E/C4382
footprint RES-0805 (0805 (2012M) Resistor)
pins: 1, 2

## 0805W8F5602T5E
designator R?  Resistance: 56kΩ  (hidden comment: *)
Resistor, 56kΩ, ±1%, 125mW, 150V, ±100ppm/°C, -55°C to +155°C, SMD 0805; Manufacturer: Uniroyal; Manufacturer Part Number: 0805W8F5602T5E; Supplier 1: LCSC; Supplier Part Number 1: C17756; JLCPCB Part Number: C17756; Power Rating: 125mW; Category: Resistors; Package Size: 0805; JLCPCB Basic Part: Yes; Tolerance: ±1%; Voltage Rating: 150V; Temperature Coefficient: ±100ppm/°C; Temperature Rating: -55°C to +155°C; ComponentLink1Description: Datasheet; ComponentLink1URL: https://datasheet.lcsc.com/lcsc/2206010200_UNI-ROYAL-Uniroyal-Elec-0805W8F5602T5E_C17756.pdf; ComponentLink2Description: JLCPCB Part URL; ComponentLink2URL: https://jlcpcb.com/partdetail/18444-0805W8F5602T5E/C17756
footprint RES-0805 (0805 (2012M) Resistor)
pins: 1, 2

## 0805W8F6201T5E
designator R?  Resistance: 6.2kΩ  (hidden comment: *)
Resistor, 6.2kΩ, ±1%, 125mW, 150V, ±100ppm/°C, -55°C to +155°C, SMD 0805; Manufacturer: Uniroyal; Manufacturer Part Number: 0805W8F6201T5E; Supplier 1: LCSC; Supplier Part Number 1: C17767; JLCPCB Part Number: C17767; Power Rating: 125mW; Category: Resistors; Package Size: 0805; JLCPCB Basic Part: Yes; Tolerance: ±1%; Voltage Rating: 150V; Temperature Coefficient: ±100ppm/°C; Temperature Rating: -55°C to +155°C; ComponentLink1Description: Datasheet; ComponentLink1URL: https://datasheet.lcsc.com/lcsc/2205311830_UNI-ROYAL-Uniroyal-Elec-0805W8F6201T5E_C17767.pdf; ComponentLink2Description: JLCPCB Part URL; ComponentLink2URL: https://jlcpcb.com/partdetail/18455-0805W8F6201T5E/C17767
footprint RES-0805 (0805 (2012M) Resistor)
pins: 1, 2